# EAGLE library part SPEEDSTACK_22 (library mullac)
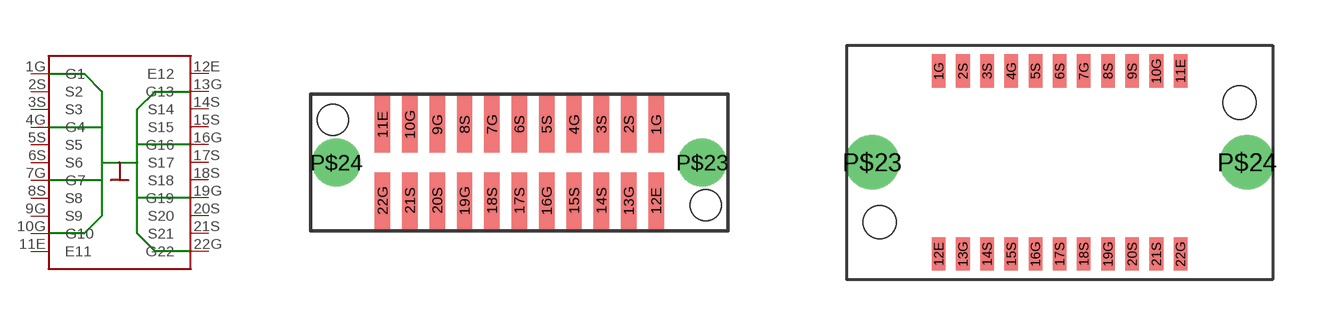
[diagram p10: symbol with the pads of SPEEDSTACK_22_MALE; footprints SPEEDSTACK_22_MALE, SPEEDSTACK_22_FEMALE]

Designator prefix -

## SPEEDSTACK_22MALE  [SPEEDSTACK_22_MALE]
1G  G1  pwr
2S  S2
3S  S3
4G  G4  pwr
5S  S5
6S  S6
7G  G7  pwr
8S  S8
9G  S9
10G  G10  pwr
11E  E11
12E  E12
13G  G13  pwr
14S  S14
15S  S15
16G  G16  pwr
17S  S17
18S  S18
19G  G19  pwr
20S  S20
21S  S21
22G  G22  pwr

## SPEEDSTACK_22FEMALE  [SPEEDSTACK_22_FEMALE]
1G  G1  pwr
2S  S2
3S  S3
4G  G4  pwr
5S  S5
6S  S6
7G  G7  pwr
8S  S8
9S  S9
10G  G10  pwr
11E  E11
12E  E12
13G  G13  pwr
14S  S14
15S  S15
16G  G16  pwr
17S  S17
18S  S18
19G  G19  pwr
20S  S20
21S  S21
22G  G22  pwr

## Footprint SPEEDSTACK_22_MALE (pad centres in mm)
smd 0.45 x 1.65: 1G 4,1.115; 2S 3.2,1.115; 3S 2.4,1.115; 4G 1.6,1.115; 5S 0.8,1.115; 6S 0,1.115; 7G -0.8,1.115; 8S -1.6,1.115; 9G -2.4,1.115; 10G -3.2,1.115; 11E -4,1.115; 12E 4,-1.115; 13G 3.2,-1.115; 14S 2.4,-1.115; 15S 1.6,-1.115; 16G 0.8,-1.115; 17S 0,-1.115; 18S -0.8,-1.115; 19G -1.6,-1.115; 20S -2.4,-1.115; 21S -3.2,-1.115; 22G -4,-1.115
drill 0.9 pad 1.15: P$23 5.35,0; P$24 -5.35,0
hole 0.9 at -5.45,1.25
hole 0.9 at 5.45,-1.25

## Footprint SPEEDSTACK_22_FEMALE (pad centres in mm)
smd 0.45 x 1.1: 1G -4,3.03; 2S -3.2,3.03; 3S -2.4,3.03; 4G -1.6,3.03; 5S -0.8,3.03; 6S 0,3.03; 7G 0.8,3.03; 8S 1.6,3.03; 9S 2.4,3.03; 10G 3.2,3.03; 11E 4,3.03; 12E -4,-3.03; 13G -3.2,-3.03; 14S -2.4,-3.03; 15S -1.6,-3.03; 16G -0.8,-3.03; 17S 0,-3.03; 18S 0.8,-3.03; 19G 1.6,-3.03; 20S 2.4,-3.03; 21S 3.2,-3.03; 22G 4,-3.03
drill 1.2 pad 1.35: P$23 -6.2,0; P$24 6.2,0
hole 1.1 at -5.95,-1.98
hole 1.1 at 5.95,1.98